# EAGLE library part 54548-2271 (library SamacSys_Parts)
FFC & FPC Connectors 0.5 FPC ZIF Hsg Assy ssy 22Ckt EmbsTp Pkg Source: Datasheet <https://componentsearchengine.com/Datasheets/1/54548-2271.pdf>
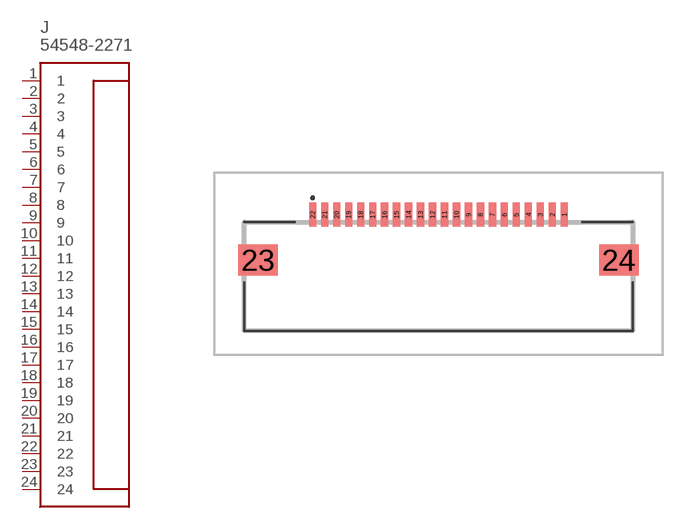
[diagram p1: symbol with the pads of 545482271; footprint 545482271]

Designator prefix J

## 54548-2271 (DESCRIPTION: FFC & FPC Connectors 0.5 FPC ZIF Hsg Assy ssy 22Ckt EmbsTp Pkg; HEIGHT: 1mm; MANUFACTURER_NAME: Molex; MANUFACTURER_PART_NUMBER: 54548-2271; MOUSER_PART_NUMBER: 538-54548-2271)  [545482271]
1  1
2  2
3  3
4  4
5  5
6  6
7  7
8  8
9  9
10  10
11  11
12  12
13  13
14  14
15  15
16  16
17  17
18  18
19  19
20  20
21  21
22  22
23  23
24  24

## Footprint 545482271 (pad centres in mm)
54548-2271
smd 0.3 x 1: 1 5.25,2.05; 2 4.75,2.05; 3 4.25,2.05; 4 3.75,2.05; 5 3.25,2.05; 6 2.75,2.05; 7 2.25,2.05; 8 1.75,2.05; 9 1.25,2.05; 10 0.75,2.05; 11 0.25,2.05; 12 -0.25,2.05; 13 -0.75,2.05; 14 -1.25,2.05; 15 -1.75,2.05; 16 -2.25,2.05; 17 -2.75,2.05; 18 -3.25,2.05; 19 -3.75,2.05; 20 -4.25,2.05; 21 -4.75,2.05; 22 -5.25,2.05
smd 1.65 x 1.3: 23 -7.525,0.15; 24 7.525,0.15